# Altium footprint library Controller-RK3562-PCB.PcbLib: 68 footprints (part 3 of 5)
Each footprint in its own frame and in the unit in brackets; x right, y up, seen from the top. Pads: shape width x height; smd on the part's side, far side on the other; paste and mask are expansions set on the pad; w line width, h text height; cw(c..) or ccw(c..) is an arc to the next point about the centre after c.
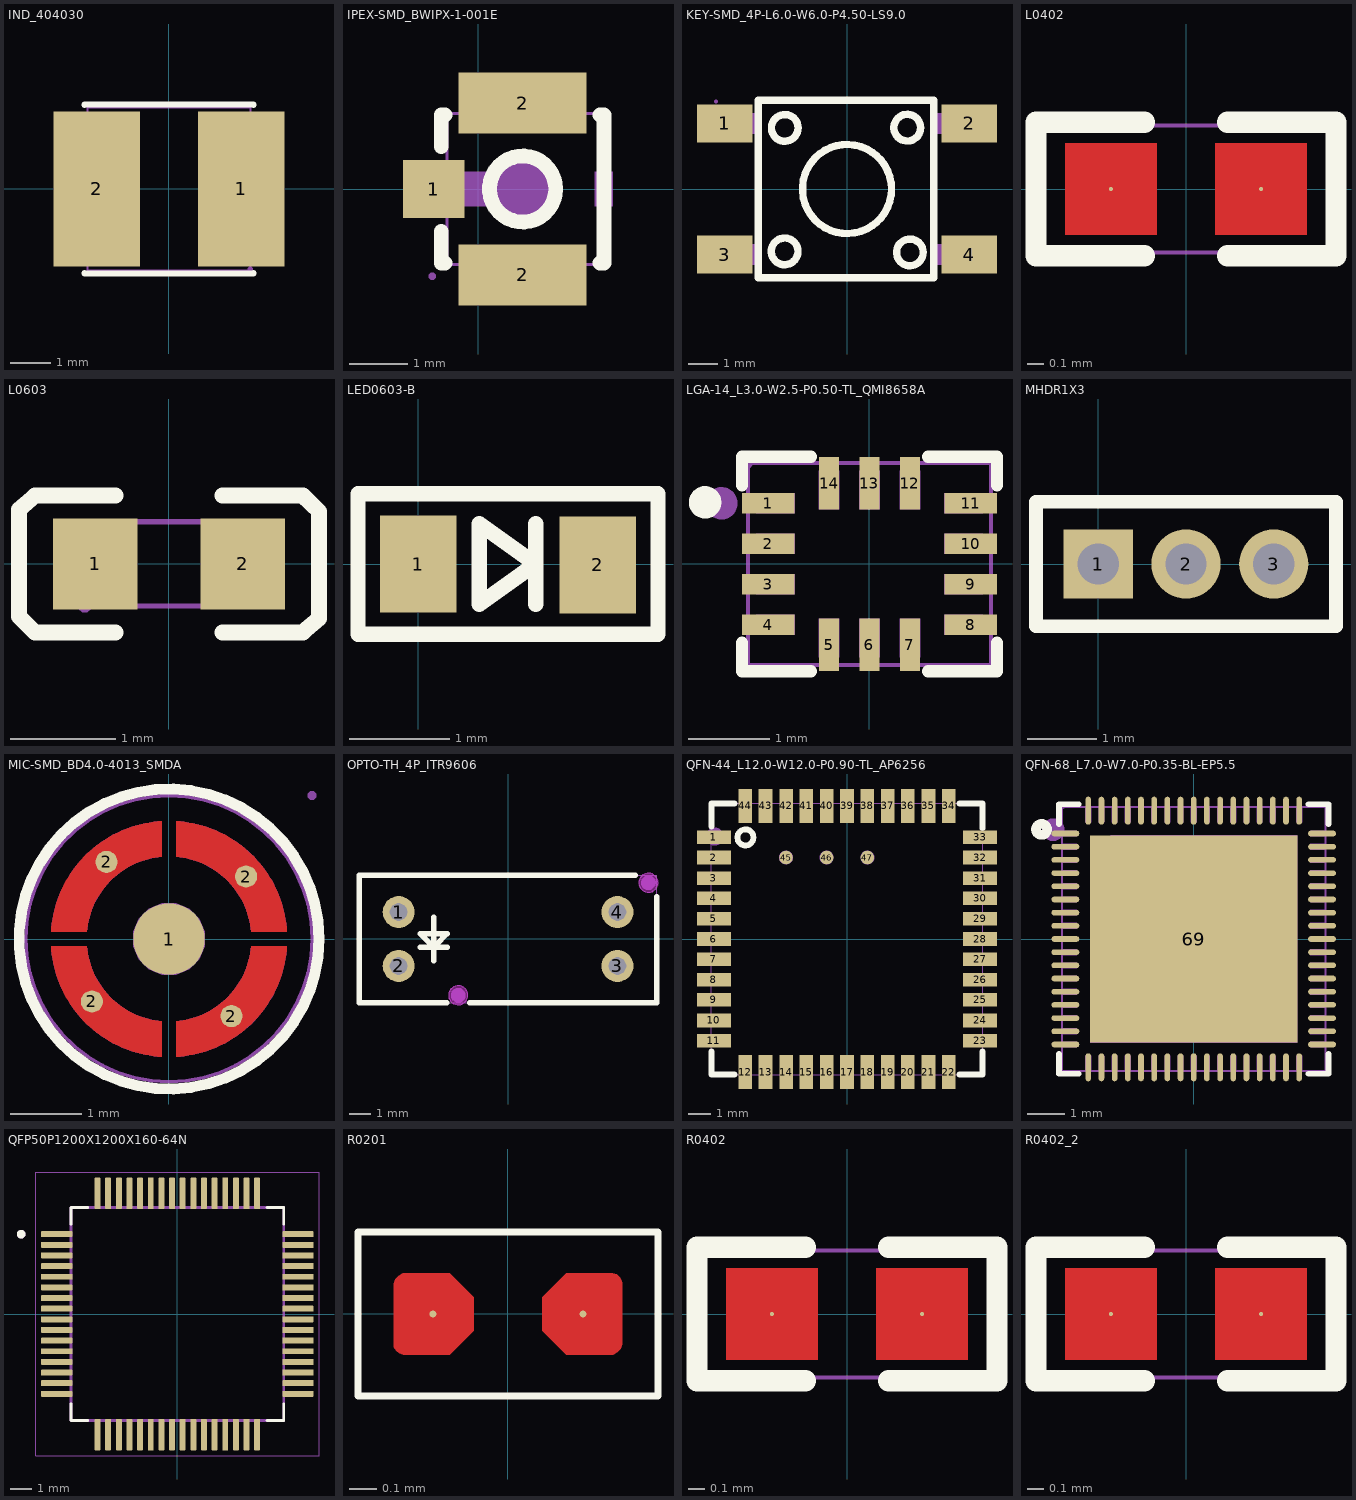
[diagram p2: the footprints below, top view; thin cyan lines are the x and y axes]

## IND_404030 [mm]
pads (2):
  rect 2.124x3.82 smd paste+0.051: 1(1.778,0) 2(-1.778,0)
Top Overlay:
  lines w0.152: -2.076,-2.062 -2.076,-2.076 2.076,-2.076 2.076,-2.062 ; -2.076,2.062 -2.076,2.076 2.076,2.076 2.076,2.062
Top Component Center:
  region: -2,-1.7 -2,1.7 -0.8,1.7 -0.8,-1.7
  region: 2,-1.7 2,1.7 0.8,1.7 0.8,-1.7
Mechanical 6:
  lines w0.051: -2,-2 -2,2 2,2 2,-2 -2,-2
Bottom 3D Body:
  region: 2.06,-1.97 2.06,-1.995 2.025,-2.03 1.975,-2.03 1.94,-1.995 1.94,-1.97 1.94,-1.945 1.975,-1.91 2.025,-1.91 2.06,-1.945 2.06,-1.97
3D body "IND-4030.step": height 3.02, standoff 0.01, extent -2.01,-1.994 2.01,2.006

## IPEX-SMD_BWIPX-1-001E [mm]
pads (3):
  rect 1.05x1 smd paste+0.051: 1(-0.763,0)
  rect 2.2x1.05 smd paste+0.051: 2(0.763,-1.475) 2(0.763,1.475)
Top Overlay:
  circle w0.254: c0.763,0 r0.568
  lines w0.254: -0.635,-0.731 -0.635,-1.27 -0.569,-1.27 ; -0.635,0.731 -0.635,1.27 -0.569,1.27 ; 2.094,-1.27 2.16,-1.27 2.16,-0.731 2.16,0.731 2.16,1.27 2.094,1.27
Mechanical 2:
  circle w0.2: c-1.015,0 r0.1
  region: 1.293,0 1.293,-0.101 1.216,-0.288 1.073,-0.431 0.886,-0.508 0.785,-0.508 0.727,-0.507 0.613,-0.478 0.509,-0.424 0.42,-0.347 0.385,-0.3 -0.45,-0.3 -0.45,0.3 0.385,0.3 0.42,0.347 0.509,0.424 0.613,0.478 0.727,0.507 0.785,0.508 0.886,0.508 1.073,0.431 1.216,0.288 1.293,0.101 1.293,0
Top Component Center:
  region: -0.437,0.3 -0.437,-0.3 -0.787,-0.3 -0.787,0.3
  region: 1.663,-1.5 -0.137,-1.5 -0.137,-1.1 1.663,-1.1
  region: 1.663,1.1 -0.137,1.1 -0.137,1.5 1.663,1.5
Mechanical 6:
  lines w0.051: -0.537,-1.3 -0.537,1.3 2.063,1.3 2.063,-1.3 -0.537,-1.3
Top 3D Body:
  region: 1.293,0 1.293,-0.101 1.216,-0.288 1.073,-0.431 0.886,-0.508 0.785,-0.508 0.727,-0.507 0.613,-0.478 0.509,-0.424 0.42,-0.347 0.385,-0.3 -0.45,-0.3 -0.45,0.3 0.385,0.3 0.42,0.347 0.509,0.424 0.613,0.478 0.727,0.507 0.785,0.508 0.886,0.508 1.073,0.431 1.216,0.288 1.293,0.101 1.293,0
  region: 2,0.3 2.312,0.3 2.312,-0.3 2,-0.3
Bottom 3D Body:
  region: -0.727,-1.5 -0.727,-1.525 -0.763,-1.56 -0.812,-1.56 -0.847,-1.525 -0.847,-1.5 -0.847,-1.475 -0.812,-1.44 -0.763,-1.44 -0.727,-1.475 -0.727,-1.5
3D body "IPEX.step": height 1.27, standoff 0.01, extent -1.03,-1.525 2.07,1.475

## KEY-SMD_4P-L6.0-W6.0-P4.50-LS9.0 [mm]
pads (4):
  rect 1.9x1.3 smd: 1(-4.2,2.25) 2(4.2,2.25) 3(-4.2,-2.25) 4(4.2,-2.25)
Top Overlay:
  circle w0.254: c-2.136,2.098 r0.458
  circle w0.254: c-2.141,-2.141 r0.458
  circle w0.254: c2.159,-2.177 r0.458
  circle w0.254: c2.068,2.105 r0.458
  circle w0.254: c0,0 r1.529
  lines w0.254: -3.051,-3.051 2.977,-3.051 2.977,3.051 -3.051,3.051 -3.051,-3.051
Mechanical 5:
  lines w0.051: -3,-3 -3,3 3,3 3,-3 -3,-3
Mechanical 6:
  region: -3.71,1.9 -3.71,2.6 -2.99,2.6 -2.99,1.9
  region: 2.99,1.9 2.99,2.6 3.71,2.6 3.71,1.9
  region: -3.71,-2.6 -3.71,-1.9 -2.99,-1.9 -2.99,-2.6
  region: 2.99,-2.6 2.99,-1.9 3.71,-1.9 3.71,-2.6
Top 3D Body:
  region: -4.44,3 -4.44,2.975 -4.475,2.94 -4.525,2.94 -4.56,2.975 -4.56,3 -4.56,3.025 -4.525,3.06 -4.475,3.06 -4.44,3.025 -4.44,3
Bottom 3D Body:
  region: -4.5,1.9 -4.5,2.6 -3.7,2.6 -3.7,1.9
  region: 3.7,1.9 3.7,2.6 4.5,2.6 4.5,1.9
  region: -4.5,-2.6 -4.5,-1.9 -3.7,-1.9 -3.7,-2.6
  region: 3.7,-2.6 3.7,-1.9 4.5,-1.9 4.5,-2.6
3D body "BUTTON-6X6-SMD.STEP": height 5.01, standoff 0.01, extent -4.627,-3.079 4.373,2.921

## L0402 [mil] "R0402"
pads (2):
  round 1 smd: 1(-17.72,0) 2(17.72,0)
Top Layer:
  region: -6.89,10.83 -28.55,10.83 -28.55,-10.83 -6.89,-10.83
  region: 28.55,10.83 6.89,10.83 6.89,-10.83 28.55,-10.83
Top Overlay:
  lines w5: -9.84,-15.75 -35.43,-15.75 -35.43,15.75 -9.84,15.75 ; 9.84,-15.75 35.43,-15.75 35.43,15.75 9.84,15.75
Top Assembly:
  lines w1: -35,-15 35,-15 35,15 -35,15 -35,-15

## L0603 [mm]
pads (2):
  rect 0.8x0.864 smd paste-100 mask+0.051: 1(-0.7,0) 2(0.7,0)
Top Overlay:
  lines w0.152: -1.272,-0.65 -0.51,-0.65 ; -1.272,0.65 -0.51,0.65 ; -1.27,-0.651 -1.424,-0.499 -1.424,0.517 -1.27,0.65 ; 0.51,-0.65 1.272,-0.65 ; 0.51,0.65 1.272,0.65 ; 1.27,-0.65 1.424,-0.517 1.424,0.499 1.27,0.65
Top Paste:
  region: -0.252,0.143 -0.252,-0.134 -0.526,-0.427 -1.029,-0.427 -1.093,-0.363 -1.093,0.373 -1.029,0.437 -0.526,0.437
  region: 0.264,0.154 0.264,-0.122 0.538,-0.416 1.042,-0.416 1.106,-0.352 1.106,0.384 1.042,0.448 0.538,0.448
Top Component Center:
  region: 0.8,-0.4 0.5,-0.4 0.5,0.4 0.8,0.4
  region: -0.5,-0.4 -0.8,-0.4 -0.8,0.4 -0.5,0.4
Mechanical 6:
  lines w0.051: -0.8,-0.4 0.8,-0.4 0.8,0.4 -0.8,0.4 -0.8,-0.4
Bottom 3D Body:
  region: -0.74,-0.4 -0.74,-0.425 -0.775,-0.46 -0.825,-0.46 -0.86,-0.425 -0.86,-0.4 -0.86,-0.375 -0.825,-0.34 -0.775,-0.34 -0.74,-0.375 -0.74,-0.4

## LED0603-B [mil]
pads (2):
  rect 30x38 smd: 1(0,0) 2(70.31,-0.31)
Top Overlay:
  lines w6: 45.98,-15.75 45.98,15.75 ; -23.62,-27.56 -23.62,27.56 93.94,27.56 93.94,-27.56 -23.62,-27.56 ; 23.91,-15.75 23.91,15.75 45.98,0 23.91,-15.75
3D body "SMD_0603LED_BLUE.STEP": height 38.43, standoff 3.78, extent 3.2,-19.68 66.82,19.69

## LGA-14_L3.0-W2.5-P0.50-TL_QMI8658A [mm]
pads (14):
  rect 0.65x0.25 smd paste+0.051: 1(-1.25,0.75) 2(-1.25,0.25) 3(-1.25,-0.25) 4(-1.25,-0.75) 8(1.25,-0.75) 9(1.25,-0.25) 10(1.25,0.25) 11(1.25,0.75)
  rect 0.25x0.65 smd paste+0.051: 5(-0.5,-1) 6(0,-1) 7(0.5,-1) 12(0.5,1) 13(0,1) 14(-0.5,1)
Top Overlay:
  circle w0.2: c-2.032,0.762 r0.1
  lines w0.152: -1.576,-0.972 -1.576,-1.326 -0.723,-1.326 ; -1.576,0.972 -1.576,1.326 -0.723,1.326 ; 0.722,-1.326 1.576,-1.326 1.576,-0.972 ; 0.722,1.326 1.576,1.326 1.576,0.972
Mechanical 2:
  circle w0.2: c-1.831,0.75 r0.1
Top Component Center:
  region: -0.625,1.15 -0.375,1.15 -0.375,0.675 -0.625,0.675
  region: -0.125,1.15 0.125,1.15 0.125,0.675 -0.125,0.675
  region: 0.375,1.15 0.625,1.15 0.625,0.675 0.375,0.675
  region: 0.925,0.875 1.4,0.875 1.4,0.625 0.925,0.625
  region: 0.925,0.375 1.4,0.375 1.4,0.125 0.925,0.125
  region: 0.925,-0.125 1.4,-0.125 1.4,-0.375 0.925,-0.375
  region: 0.925,-0.625 1.4,-0.625 1.4,-0.875 0.925,-0.875
  region: 0.375,-0.675 0.625,-0.675 0.625,-1.15 0.375,-1.15
  region: -0.125,-0.675 0.125,-0.675 0.125,-1.15 -0.125,-1.15
  region: -0.625,-0.675 -0.375,-0.675 -0.375,-1.15 -0.625,-1.15
  region: -1.4,-0.625 -0.925,-0.625 -0.925,-0.875 -1.4,-0.875
  region: -1.4,-0.125 -0.925,-0.125 -0.925,-0.375 -1.4,-0.375
  region: -1.4,0.375 -0.925,0.375 -0.925,0.125 -1.4,0.125
  region: -1.4,0.875 -0.925,0.875 -0.925,0.625 -1.4,0.625
Mechanical 6:
  lines w0.051: -1.5,-1.25 -1.5,1.25 1.5,1.25 1.5,-1.25 -1.5,-1.25
Bottom 3D Body:
  region: -1.44,1.25 -1.44,1.225 -1.475,1.19 -1.525,1.19 -1.56,1.225 -1.56,1.25 -1.56,1.275 -1.525,1.31 -1.475,1.31 -1.44,1.275 -1.44,1.25
3D body "ICM-42607-P.step": height 0.88, standoff 0.01, extent -1.513,-1.255 1.487,1.245

## MHDR1X3 [mm] "Connector; Header; 3 Position"
pads (3):
  rect 1x1 hole 0.6: 1(0,0)
  round 1 hole 0.6: 2(1.27,0) 3(2.54,0)
Top Overlay:
  lines w0.2: -0.9,-0.9 3.44,-0.9 3.44,0.9 -0.9,0.9 -0.9,-0.9

## MIC-SMD_BD4.0-4013_SMDA [mm]
pads (5):
  round 1 smd paste+0 mask+0.05: 1(0,0)
  round 0.31 smd: 2(-1.079,-0.875) 2(-0.875,1.079) 2(0.875,-1.079) 2(1.079,0.875)
Top Layer:
  region: -0.1,-1.15 -0.149,-1.145 -0.197,-1.138 -0.245,-1.129 -0.293,-1.117 -0.34,-1.104 -0.386,-1.089 -0.432,-1.071 -0.477,-1.052 -0.521,-1.031 -0.564,-1.008 -0.607,-0.984 -0.648,-0.957 -0.688,-0.929 -0.726,-0.899 -0.764,-0.867 -0.8,-0.834 -0.834,-0.8 -0.867,-0.764 -0.899,-0.726 -0.929,-0.688 -0.957,-0.648 -0.984,-0.607 -1.008,-0.564 -1.031,-0.521 -1.052,-0.477 -1.071,-0.432 -1.089,-0.386 -1.104,-0.34 -1.117,-0.293 -1.129,-0.245 -1.138,-0.197 -1.145,-0.149 -1.15,-0.1 -1.65,-0.1 -1.646,-0.158 -1.639,-0.216 -1.631,-0.274 -1.62,-0.332 -1.607,-0.389 -1.593,-0.445 -1.576,-0.502 -1.557,-0.557 -1.537,-0.612 -1.514,-0.666 -1.49,-0.719 -1.463,-0.771 -1.435,-0.822 -1.405,-0.872 -1.374,-0.922 -1.34,-0.97 -1.305,-1.016 -1.268,-1.062 -1.23,-1.106 -1.19,-1.149 -1.149,-1.19 -1.106,-1.23 -1.062,-1.268 -1.016,-1.305 -0.97,-1.34 -0.922,-1.374 -0.873,-1.405 -0.822,-1.435 -0.771,-1.463 -0.719,-1.49 -0.666,-1.514 -0.612,-1.537 -0.557,-1.557 -0.502,-1.576 -0.446,-1.592 -0.389,-1.607 -0.332,-1.62 -0.274,-1.63 -0.217,-1.639 -0.158,-1.646 -0.1,-1.65
  region: -1.15,0.1 -1.145,0.149 -1.138,0.197 -1.129,0.245 -1.117,0.293 -1.104,0.34 -1.089,0.386 -1.072,0.432 -1.052,0.477 -1.031,0.521 -1.008,0.565 -0.984,0.607 -0.957,0.648 -0.929,0.688 -0.899,0.727 -0.868,0.764 -0.834,0.8 -0.8,0.835 -0.764,0.867 -0.727,0.899 -0.688,0.929 -0.648,0.957 -0.607,0.984 -0.564,1.008 -0.521,1.031 -0.477,1.052 -0.432,1.072 -0.386,1.089 -0.34,1.104 -0.293,1.117 -0.245,1.129 -0.197,1.138 -0.149,1.145 -0.1,1.15 -0.1,1.65 -0.159,1.646 -0.217,1.639 -0.274,1.631 -0.332,1.62 -0.389,1.607 -0.446,1.593 -0.502,1.576 -0.557,1.557 -0.612,1.537 -0.666,1.514 -0.719,1.49 -0.771,1.463 -0.822,1.435 -0.873,1.405 -0.922,1.374 -0.97,1.34 -1.016,1.305 -1.062,1.268 -1.106,1.23 -1.149,1.19 -1.19,1.149 -1.23,1.106 -1.268,1.062 -1.305,1.017 -1.34,0.97 -1.374,0.922 -1.405,0.873 -1.435,0.822 -1.463,0.771 -1.49,0.719 -1.514,0.666 -1.537,0.612 -1.557,0.557 -1.576,0.502 -1.593,0.446 -1.607,0.389 -1.62,0.332 -1.631,0.275 -1.639,0.217 -1.646,0.159 -1.65,0.1
  region: 0.1,1.15 0.149,1.145 0.197,1.138 0.245,1.129 0.293,1.117 0.34,1.104 0.386,1.089 0.432,1.071 0.477,1.052 0.521,1.031 0.564,1.008 0.607,0.984 0.648,0.957 0.688,0.929 0.726,0.899 0.764,0.867 0.8,0.834 0.834,0.8 0.867,0.764 0.899,0.726 0.929,0.688 0.957,0.648 0.984,0.607 1.008,0.564 1.031,0.521 1.052,0.477 1.071,0.432 1.089,0.386 1.104,0.34 1.117,0.293 1.129,0.245 1.138,0.197 1.145,0.149 1.15,0.1 1.65,0.1 1.646,0.158 1.639,0.216 1.631,0.274 1.62,0.332 1.607,0.389 1.593,0.445 1.576,0.501 1.557,0.557 1.537,0.612 1.514,0.666 1.49,0.719 1.463,0.771 1.435,0.822 1.405,0.872 1.374,0.922 1.34,0.97 1.305,1.016 1.268,1.062 1.23,1.106 1.19,1.149 1.149,1.19 1.106,1.23 1.062,1.268 1.016,1.305 0.97,1.34 0.922,1.374 0.873,1.405 0.822,1.435 0.771,1.463 0.719,1.49 0.666,1.514 0.612,1.536 0.557,1.557 0.502,1.576 0.446,1.592 0.389,1.607 0.332,1.62 0.274,1.63 0.217,1.639 0.158,1.646 0.1,1.65
  region: 1.15,-0.1 1.145,-0.149 1.138,-0.197 1.128,-0.245 1.117,-0.293 1.104,-0.34 1.089,-0.386 1.071,-0.432 1.052,-0.477 1.031,-0.521 1.008,-0.564 0.984,-0.607 0.957,-0.648 0.929,-0.688 0.899,-0.726 0.867,-0.764 0.834,-0.8 0.8,-0.834 0.764,-0.867 0.726,-0.899 0.688,-0.929 0.648,-0.957 0.607,-0.984 0.564,-1.008 0.521,-1.031 0.477,-1.052 0.432,-1.071 0.386,-1.089 0.34,-1.104 0.293,-1.117 0.245,-1.128 0.197,-1.138 0.149,-1.145 0.1,-1.15 0.1,-1.65 0.158,-1.646 0.216,-1.639 0.274,-1.631 0.332,-1.62 0.389,-1.607 0.445,-1.593 0.501,-1.576 0.557,-1.557 0.612,-1.537 0.666,-1.514 0.719,-1.49 0.771,-1.463 0.822,-1.435 0.872,-1.405 0.922,-1.374 0.97,-1.34 1.016,-1.305 1.062,-1.268 1.106,-1.23 1.149,-1.19 1.19,-1.149 1.23,-1.106 1.268,-1.062 1.305,-1.016 1.34,-0.97 1.373,-0.922 1.405,-0.873 1.435,-0.822 1.463,-0.771 1.49,-0.719 1.514,-0.666 1.536,-0.612 1.557,-0.557 1.576,-0.502 1.592,-0.446 1.607,-0.389 1.62,-0.332 1.63,-0.274 1.639,-0.217 1.646,-0.158 1.65,-0.1
Top Overlay:
  circle w0.152: c0,0 r2.1
Top Component Center:
  drawing of 5 lines, arcs and shapes, not listed
Mechanical 6:
  lines w0.051: -2.005,0.004 ccw(c0,0.004) 2.005,0.004 ccw(c0,0.004) -2.005,0.004
Bottom 3D Body:
  region: 2.065,2.009 2.065,1.985 2.03,1.949 1.98,1.949 1.945,1.985 1.945,2.009 1.945,2.034 1.98,2.069 2.03,2.069 2.065,2.034 2.065,2.009

## OPTO-TH_4P_ITR9606 [mil]
pads (4):
  round 59.06 hole 32 slot 32.2 at 0 deg paste-99999: 1(-202.76,50) 2(-202.76,-50)
  round 59.06 hole 32 slot 32.2 at 0 deg copper offset 0.02,0 paste-99999: 3(202.74,-50) 4(202.74,50)
Top Overlay:
  lines w10: -162.75,-15 -112.75,-15 ; -142.75,-10 -162.75,10 -112.75,10 -132.75,-10 ; -137.75,-40 -137.75,40 ; -113.5,-118.11 -275.59,-118.11 -275.59,118.11 236.22,118.11 ; -71.06,-118.11 275.59,-118.11 275.59,78.74
Keep-Out Layer:
  circle w0.1: c-92.28,-104.33 r17.72
  circle w0.1: c260.12,104.33 r17.72
  region: -74.57,-104.33 -74.57,-107.86 -77.26,-114.37 -82.25,-119.35 -88.76,-122.05 -95.81,-122.05 -102.32,-119.35 -107.3,-114.37 -110,-107.86 -110,-104.33 -110,-100.81 -107.3,-94.3 -102.32,-89.31 -95.81,-86.61 -88.76,-86.61 -82.25,-89.31 -77.26,-94.3 -74.57,-100.81 -74.57,-104.33
  region: -74.57,-104.33 -74.57,-107.86 -77.26,-114.37 -82.25,-119.35 -88.76,-122.05 -95.81,-122.05 -102.32,-119.35 -107.3,-114.37 -110,-107.86 -110,-104.33 -110,-100.81 -107.3,-94.3 -102.32,-89.31 -95.81,-86.61 -88.76,-86.61 -82.25,-89.31 -77.26,-94.3 -74.57,-100.81 -74.57,-104.33
  region: 277.83,104.33 277.83,100.81 275.14,94.29 270.15,89.31 263.64,86.61 256.59,86.61 250.08,89.31 245.1,94.29 242.4,100.81 242.4,104.33 242.4,107.85 245.1,114.37 250.08,119.35 256.59,122.05 263.64,122.05 270.15,119.35 275.14,114.37 277.83,107.85 277.83,104.33
  region: 277.83,104.33 277.83,100.81 275.14,94.29 270.15,89.31 263.64,86.61 256.59,86.61 250.08,89.31 245.1,94.29 242.4,100.81 242.4,104.33 242.4,107.85 245.1,114.37 250.08,119.35 256.59,122.05 263.64,122.05 270.15,119.35 275.14,114.37 277.83,107.85 277.83,104.33
Mechanical 1:
  circle w0.1: c-92.28,-104.33 r17.72
  circle w0.1: c260.12,104.33 r17.72
Mechanical 2:
  circle w13.78: c260.13,104.33 r6.89
  circle w13.78: c-92.27,-104.33 r6.89
Top Component Center:
  region: 194.88,-42.13 210.63,-42.13 210.63,-57.87 194.88,-57.87
  region: 194.88,57.87 210.63,57.87 210.63,42.13 194.88,42.13
  region: -210.63,-42.13 -194.88,-42.13 -194.88,-57.87 -210.63,-57.87
  region: -210.63,57.87 -194.88,57.87 -194.88,42.13 -210.63,42.13
Mechanical 6:
  lines w2: -275.59,-118.11 -275.59,118.11 275.59,118.11 275.59,-118.11 -275.59,-118.11
Bottom 3D Body:
  region: -273.23,118.11 -273.23,117.13 -274.61,115.75 -276.57,115.75 -277.95,117.13 -277.95,118.11 -277.95,119.09 -276.57,120.47 -274.61,120.47 -273.23,119.09 -273.23,118.11
3D body "ITR9606.step": height 394.2, standoff -156.98, extent -275.59,-115 275.59,121.26

## QFN-44_L12.0-W12.0-P0.90-TL_AP6256 [mm]
pads (47):
  rect 1.5x0.6 smd paste+0 mask+0.05: 1(-5.889,4.496) 2(-5.889,3.607) 3(-5.889,2.692) 4(-5.889,1.803) 5(-5.889,0.889) 6(-5.889,0) 7(-5.889,-0.889) 8(-5.889,-1.803) 9(-5.889,-2.692) 10(-5.889,-3.607) 11(-5.889,-4.496) 23(5.889,-4.496) 24(5.889,-3.607) 25(5.889,-2.692) 26(5.889,-1.803) 27(5.889,-0.889) 28(5.889,0) 29(5.889,0.889) 30(5.889,1.803) 31(5.889,2.692) 32(5.889,3.607) 33(5.889,4.496)
  rect 0.6x1.5 smd paste+0 mask+0.05: 12(-4.496,-5.889) 13(-3.607,-5.889) 14(-2.692,-5.889) 15(-1.803,-5.889) 16(-0.889,-5.889) 17(0,-5.889) 18(0.889,-5.889) 19(1.803,-5.889) 20(2.692,-5.889) 21(3.607,-5.889) 22(4.496,-5.889) 34(4.496,5.889) 35(3.607,5.889) 36(2.692,5.889) 37(1.803,5.889) 38(0.889,5.889) 39(0,5.889) 40(-0.889,5.889) 41(-1.803,5.889) 42(-2.692,5.889) 43(-3.607,5.889) 44(-4.496,5.889)
  round 0.6 smd paste+0 mask+0.05: 45(-2.7,3.607) 46(-0.9,3.607) 47(0.9,3.607)
Top Overlay:
  circle w0.254: c-4.496,4.496 r0.356
  lines w0.254: -5.994,-4.978 -5.994,-5.994 -4.978,-5.994 ; -5.994,4.978 -5.994,5.994 -4.978,5.994 ; 4.978,-5.994 5.994,-5.994 5.994,-4.978 ; 4.978,5.994 5.994,5.994 5.994,4.902
Mechanical 2:
  circle w0.4: c-5.86,4.536 r0.2
Top Component Center:
  drawing of 47 lines, arcs and shapes, not listed
Mechanical 6:
  lines w0.051: -6,-6 6,-6 6,6 -6,6 -6,-6
Bottom 3D Body:
  region: -5.94,6 -5.94,5.975 -5.975,5.94 -6.025,5.94 -6.06,5.975 -6.06,6 -6.06,6.025 -6.025,6.06 -5.975,6.06 -5.94,6.025 -5.94,6
3D body "AP6256.stp": height 1.7, standoff 0, extent -6.064,-6 5.937,6

## QFN-68_L7.0-W7.0-P0.35-BL-EP5.5 [mm]
pads (69):
  oval 0.74x0.15 smd paste-100 mask+0.051: 1(-3.407,2.8) 2(-3.407,2.45) 3(-3.407,2.1) 4(-3.407,1.75) 5(-3.407,1.4) 6(-3.407,1.05) 7(-3.407,0.7) 8(-3.407,0.35) 9(-3.407,0) 10(-3.407,-0.35) 11(-3.407,-0.7) 12(-3.407,-1.05) 13(-3.407,-1.4) 14(-3.407,-1.75) 15(-3.407,-2.1) 16(-3.407,-2.45) 17(-3.407,-2.8) 35(3.407,-2.8) 36(3.407,-2.45) 37(3.407,-2.1) 38(3.407,-1.75) 39(3.407,-1.4) 40(3.407,-1.05) 41(3.407,-0.7) 42(3.407,-0.35) 43(3.407,0) 44(3.407,0.35) 45(3.407,0.7) 46(3.407,1.05) 47(3.407,1.4) 48(3.407,1.75) 49(3.407,2.1) 50(3.407,2.45) 51(3.407,2.8)
  oval 0.15x0.74 smd paste-100 mask+0.051: 18(-2.8,-3.407) 19(-2.45,-3.407) 20(-2.1,-3.407) 21(-1.75,-3.407) 22(-1.4,-3.407) 23(-1.05,-3.407) 24(-0.7,-3.407) 25(-0.35,-3.407) 26(0,-3.407) 27(0.35,-3.407) 28(0.7,-3.407) 29(1.05,-3.407) 30(1.4,-3.407) 31(1.75,-3.407) 32(2.1,-3.407) 33(2.45,-3.407) 34(2.8,-3.407) 52(2.8,3.407) 53(2.45,3.407) 54(2.1,3.407) 55(1.75,3.407) 56(1.4,3.407) 57(1.05,3.407) 58(0.7,3.407) 59(0.35,3.407) 60(0,3.407) 61(-0.35,3.407) 62(-0.7,3.407) 63(-1.05,3.407) 64(-1.4,3.407) 65(-1.75,3.407) 66(-2.1,3.407) 67(-2.45,3.407) 68(-2.8,3.407)
  rect 5.5x5.5 smd paste-100 mask+0.051: 69(0,0)
Top Overlay:
  circle w0.254: c-4.04,2.91 r0.148
  lines w0.152: -3.576,-3.05 -3.576,-3.576 -3.05,-3.576 ; -3.576,3.05 -3.576,3.576 -3.05,3.576 ; 3.05,-3.576 3.576,-3.576 3.576,-3.05 ; 3.05,3.576 3.576,3.576 3.576,3.05
Top Paste:
  drawing of 69 lines, arcs and shapes, not listed
Mechanical 2:
  circle w0.3: c-3.73,2.9 r0.15
Top Component Center:
  drawing of 69 lines, arcs and shapes, not listed
Mechanical 6:
  lines w0.051: -3.5,-3.5 3.5,-3.5 3.5,3.5 -3.5,3.5 -3.5,-3.5
Bottom 3D Body:
  region: -3.44,3.5 -3.44,3.475 -3.475,3.44 -3.525,3.44 -3.56,3.475 -3.56,3.5 -3.56,3.525 -3.525,3.56 -3.475,3.56 -3.44,3.525 -3.44,3.5
3D body "QFN69.step": height 0.76, standoff 0.01, extent -3.505,-3.505 3.495,3.495

## QFP50P1200X1200X160-64N [mm]
height 1.6
pads (64):
  rrect25% 1.47x0.28 smd: 1(-5.67,3.75) 2(-5.67,3.25) 3(-5.67,2.75) 4(-5.67,2.25) 5(-5.67,1.75) 6(-5.67,1.25) 7(-5.67,0.75) 8(-5.67,0.25) 9(-5.67,-0.25) 10(-5.67,-0.75) 11(-5.67,-1.25) 12(-5.67,-1.75) 13(-5.67,-2.25) 14(-5.67,-2.75) 15(-5.67,-3.25) 16(-5.67,-3.75) 33(5.67,-3.75) 34(5.67,-3.25) 35(5.67,-2.75) 36(5.67,-2.25) 37(5.67,-1.75) 38(5.67,-1.25) 39(5.67,-0.75) 40(5.67,-0.25) 41(5.67,0.25) 42(5.67,0.75) 43(5.67,1.25) 44(5.67,1.75) 45(5.67,2.25) 46(5.67,2.75) 47(5.67,3.25) 48(5.67,3.75)
  rrect25% 0.28x1.47 smd: 17(-3.75,-5.67) 18(-3.25,-5.67) 19(-2.75,-5.67) 20(-2.25,-5.67) 21(-1.75,-5.67) 22(-1.25,-5.67) 23(-0.75,-5.67) 24(-0.25,-5.67) 25(0.25,-5.67) 26(0.75,-5.67) 27(1.25,-5.67) 28(1.75,-5.67) 29(2.25,-5.67) 30(2.75,-5.67) 31(3.25,-5.67) 32(3.75,-5.67) 49(3.75,5.67) 50(3.25,5.67) 51(2.75,5.67) 52(2.25,5.67) 53(1.75,5.67) 54(1.25,5.67) 55(0.75,5.67) 56(0.25,5.67) 57(-0.25,5.67) 58(-0.75,5.67) 59(-1.25,5.67) 60(-1.75,5.67) 61(-2.25,5.67) 62(-2.75,5.67) 63(-3.25,5.67) 64(-3.75,5.67)
Top Overlay:
  circle w0.2: c-7.34,3.75 r0.1
  lines w0.127: -5,-4.21 -5,-5 -4.21,-5 ; -5,4.21 -5,5 -4.21,5 ; 4.21,-5 5,-5 5,-4.21 ; 4.21,5 5,5 5,4.21
Mechanical 13:
  circle w0.2: c-7.34,3.75 r0.1
  lines w0.127: -5,-5 5,-5 5,5 -5,5 -5,-5
Mechanical 15:
  lines w0.05: -6.655,-6.655 6.655,-6.655 6.655,6.655 -6.655,6.655 -6.655,-6.655
3D body "step_temp.STEP": height 1.6, standoff 0, extent -6,-6 6,6

## R0201 [mil] "R0201"
pads (2):
  round 1 smd: 1(-10.83,0) 2(10.83,0)
Top Layer:
  region: -10.83,5.91 -14.83,5.91 -15.18,5.86 -15.8,5.53 -16.26,5.01 -16.5,4.35 -16.5,4 -16.5,-4.5 -16.45,-4.8 -16.16,-5.32 -15.7,-5.7 -15.13,-5.91 -14.83,-5.91 -10.83,-5.91 -8.38,-5.91 -4.93,-2.45 -4.93,2.45 -8.38,5.91
  region: 10.83,-5.91 14.83,-5.91 15.18,-5.86 15.8,-5.53 16.26,-5.01 16.5,-4.35 16.5,-4 16.5,4.5 16.45,4.8 16.16,5.32 15.7,5.7 15.13,5.91 14.83,5.91 10.83,5.91 8.38,5.91 4.93,2.45 4.93,-2.45 8.38,-5.91
Top Overlay:
  lines w1: -21.65,-11.82 21.66,-11.82 21.66,11.81 -21.65,11.81 -21.65,-11.82
  text ".Designator" at -17.96,-25.63 h10
Mechanical 10:
  text "1" at -10.83,10 h25
  text "2" at 10.83,10 h25
Bottom Assembly:
  text "240R" at -10,-20 h25

## R0402 [mil] "R0402"
pads (2):
  round 1 smd: 1(-17.72,0) 2(17.72,0)
Top Layer:
  region: -6.89,10.83 -28.55,10.83 -28.55,-10.83 -6.89,-10.83
  region: 28.55,10.83 6.89,10.83 6.89,-10.83 28.55,-10.83
Top Overlay:
  lines w5: -9.84,-15.75 -35.43,-15.75 -35.43,15.75 -9.84,15.75 ; 9.84,-15.75 35.43,-15.75 35.43,15.75 9.84,15.75
Top Assembly:
  lines w1: -35,-15 35,-15 35,15 -35,15 -35,-15
3D body "0402 resistor.STEP": height 13.78, standoff 0, extent -19.69,-10 19.68,9.68

## R0402_2 [mil]
pads (2):
  round 1 smd: 1(-17.72,0) 2(17.72,0)
Top Layer:
  region: -6.89,10.83 -28.55,10.83 -28.55,-10.83 -6.89,-10.83
  region: 28.55,10.83 6.89,10.83 6.89,-10.83 28.55,-10.83
Top Overlay:
  lines w5: -9.84,-15.75 -35.43,-15.75 -35.43,15.75 -9.84,15.75 ; 9.84,-15.75 35.43,-15.75 35.43,15.75 9.84,15.75
Top Assembly:
  lines w1: -35,-15 35,-15 35,15 -35,15 -35,-15
3D body "0402 resistor.STEP": height 13.78, standoff 0, extent -19.69,-10 19.69,9.69